# Altium footprint library smdUtilities.PcbLib: 59 footprints (part 1 of 4)
Each footprint in its own frame and in the unit in brackets; x right, y up, seen from the top. Pads: shape width x height; smd on the part's side, far side on the other; paste and mask are expansions set on the pad; w line width, h text height; cw(c..) or ccw(c..) is an arc to the next point about the centre after c.
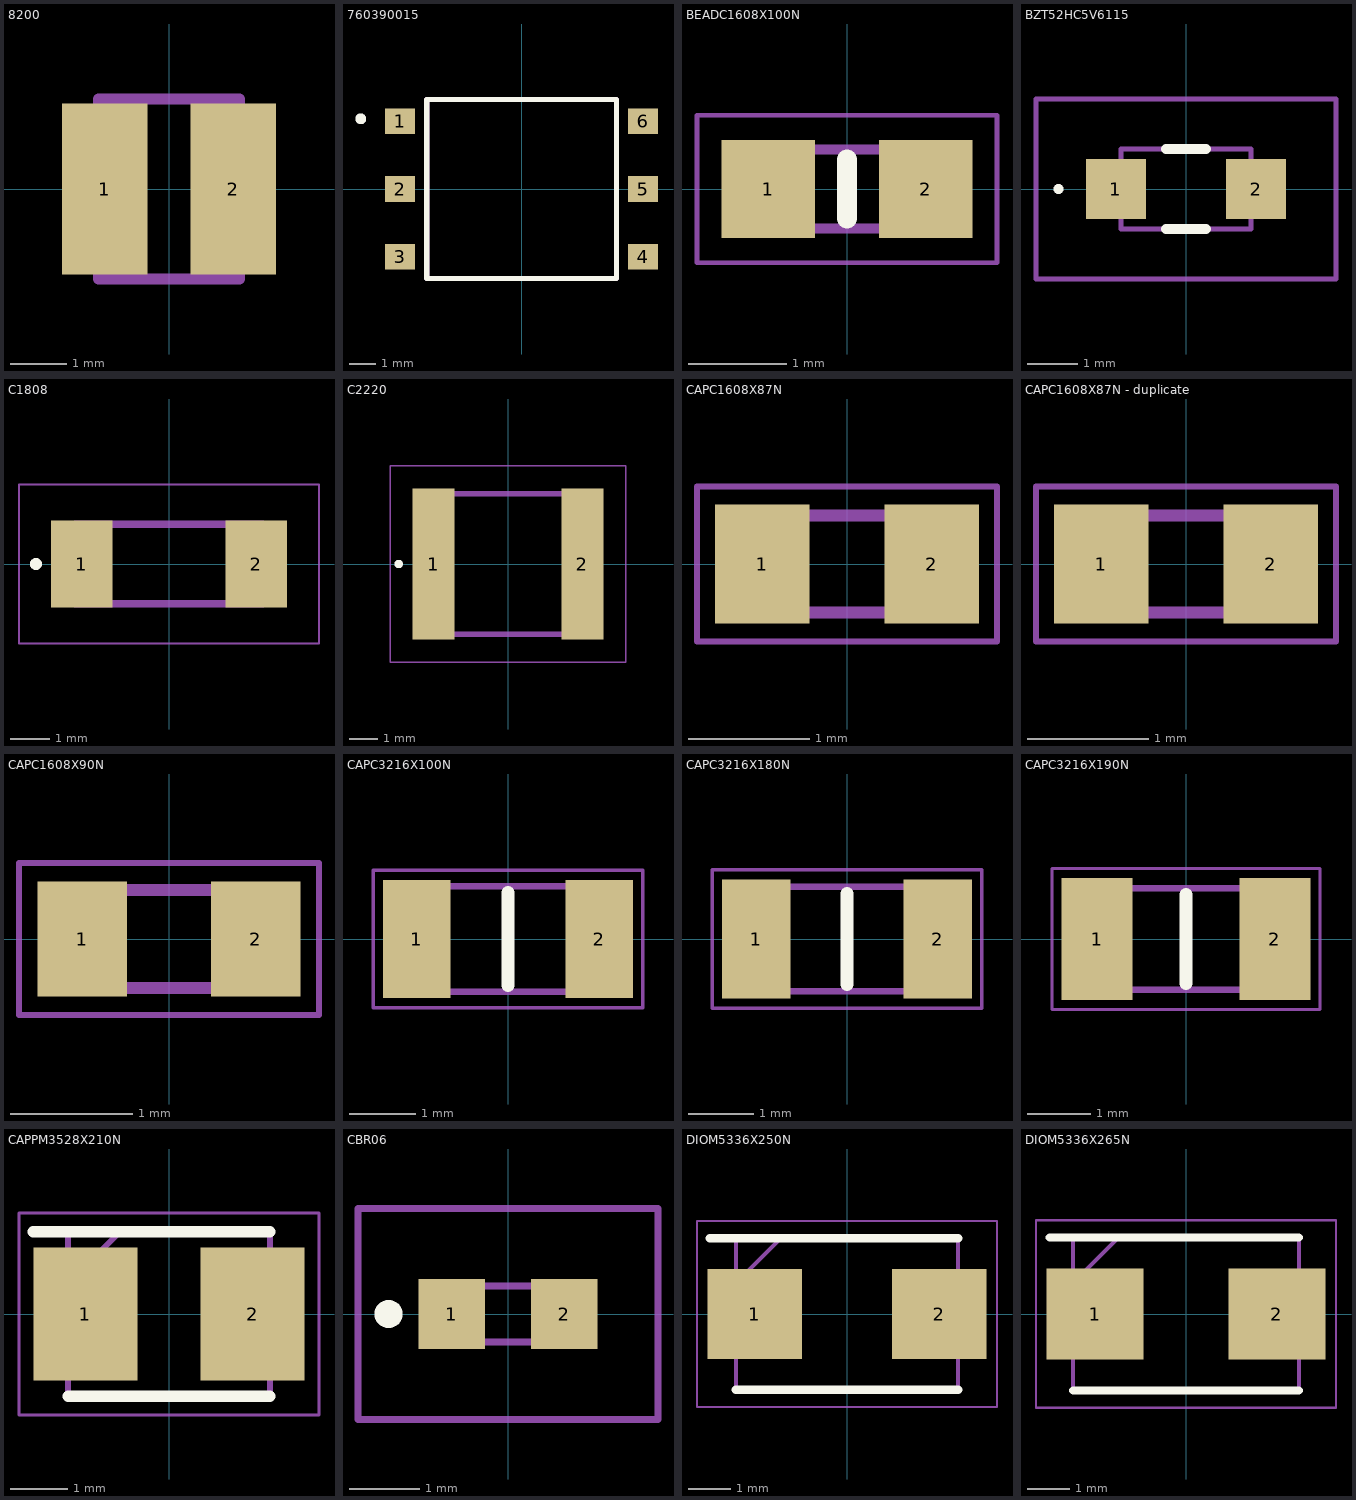
[diagram p0: the footprints below, top view; thin cyan lines are the x and y axes]

## 8200 [mm]
pads (2):
  rect 1.52x3.05 smd: 1(-1.145,0) 2(1.145,0)
Mechanical 13:
  lines w0.2: -1.25,-1.6 -1.25,1.6 1.25,1.6 1.25,-1.6 -1.25,-1.6
3D body "82332C.stp": height 2.01, standoff 0, extent -1.6,-1.25 1.6,1.25

## 760390015 [mm]
pads (6):
  rect 1.12x0.96 smd: 1(-4.57,2.54) 2(-4.57,0) 3(-4.57,-2.54) 4(4.57,-2.54) 5(4.57,0) 6(4.57,2.54)
Top Overlay:
  circle w0.2: c-6.049,2.64 r0.104
  lines w0.2: -3.57,-3.365 3.57,-3.365 3.57,3.365 -3.57,3.365 -3.57,-3.365
Mechanical 13:
  lines w0.2: -3.57,-3.365 -3.57,3.365 3.57,3.365 3.57,-3.365 -3.57,-3.365
3D body "760390015.stp": height 4.06, standoff 0, extent -5.005,-3.235 4.955,3.245

## BEADC1608X100N [mm]
pads (2):
  rect 0.95x1 smd: 1(-0.8,0) 2(0.8,0)
Top Overlay:
  lines w0.2: 0,-0.3 0,0.3
Mechanical 13:
  lines w0.1: -0.8,-0.4 0.8,-0.4 0.8,0.4 -0.8,0.4 -0.8,-0.4
Mechanical 15:
  lines w0.05: -1.525,-0.75 1.525,-0.75 1.525,0.75 -1.525,0.75 -1.525,-0.75
3D body "74279228260.stp": height 1, standoff 0, extent -0.8,-0.4 0.8,0.4

## BZT52HC5V6115 [mm]
pads (2):
  rect 1.2x1.2 smd: 1(-1.4,0) 2(1.4,0)
Top Overlay:
  lines w0.1: -2.6,0 ccw(c-2.55,0) -2.5,0 ccw(c-2.55,0) -2.6,0
  lines w0.2: -0.4,-0.8 0.4,-0.8 ; -0.4,0.8 0.4,0.8
Mechanical 13:
  lines w0.1: -1.3,-0.8 1.3,-0.8 1.3,0.8 -1.3,0.8 -1.3,-0.8
Mechanical 15:
  lines w0.1: -3,-1.8 3,-1.8 3,1.8 -3,1.8 -3,-1.8
3D body "BZT52H-C5V6,115.stp": height 1.1, standoff 0, extent -1.751,-0.805 1.749,0.795

## C1808 [mm]
pads (2):
  rect 1.55x2.2 smd: 1(-2.2,0) 2(2.2,0)
Top Overlay:
  circle w0.2: c-3.35,0 r0.05
Mechanical 13:
  lines w0.2: -2.35,-1 -2.35,1 2.35,1 2.35,-1 -2.35,-1
Mechanical 15:
  lines w0.05: -3.775,-2 -3.775,2 3.775,2 3.775,-2 -3.775,-2
3D body "C1808C102JBGACTU.stp": height 1.75, standoff 0, extent -2.6,-1.1 2.6,1.1

## C2220 [mm]
pads (2):
  rect 1.5x5.4 smd: 1(-2.65,0) 2(2.65,0)
Top Overlay:
  circle w0.2: c-3.9,0 r0.05
Mechanical 13:
  lines w0.2: -2.85,-2.5 2.85,-2.5 2.85,2.5 -2.85,2.5 -2.85,-2.5
Mechanical 15:
  lines w0.05: -4.2,-3.5 4.2,-3.5 4.2,3.5 -4.2,3.5 -4.2,-3.5
3D body "C2220C102KHGACTU.stp": height 1.15, standoff 0, extent -3.048,-2.701 3.052,2.699

## CAPC1608X87N [mm]
pads (2):
  rect 0.78x0.98 smd: 1(-0.7,0) 2(0.7,0)
Mechanical 13:
  lines w0.1: -0.8,-0.4 0.8,-0.4 0.8,0.4 -0.8,0.4 -0.8,-0.4
Mechanical 15:
  lines w0.05: -1.24,-0.64 1.24,-0.64 1.24,0.64 -1.24,0.64 -1.24,-0.64
3D body "C0603C102J5GAC.stp": height 0.91, standoff -0.04, extent -0.875,-0.437 0.875,0.433

## CAPC1608X87N - duplicate [mm]
pads (2):
  rect 0.78x0.98 smd: 1(-0.7,0) 2(0.7,0)
Mechanical 13:
  lines w0.1: -0.8,-0.4 -0.8,0.4 0.8,0.4 0.8,-0.4 -0.8,-0.4
Mechanical 15:
  lines w0.05: -1.24,-0.64 -1.24,0.64 1.24,0.64 1.24,-0.64 -1.24,-0.64
3D body "C0603C331J5GACTU.stp": height 0, standoff -0.95, extent -0.9,-0.438 0.85,0.432

## CAPC1608X90N [mm]
pads (2):
  rect 0.73x0.94 smd: 1(-0.71,0) 2(0.71,0)
Mechanical 13:
  lines w0.1: -0.8,-0.4 0.8,-0.4 0.8,0.4 -0.8,0.4 -0.8,-0.4
Mechanical 15:
  lines w0.05: -1.225,-0.62 1.225,-0.62 1.225,0.62 -1.225,0.62 -1.225,-0.62
3D body "CL10B104JB8NNNC.stp": height 0.9, standoff 0, extent -0.8,-0.4 0.8,0.4

## CAPC3216X100N [mm]
pads (2):
  rect 1.02x1.78 smd: 1(-1.38,0) 2(1.38,0)
Top Overlay:
  lines w0.2: 0,-0.7 0,0.7
Mechanical 13:
  lines w0.1: -1.6,-0.8 1.6,-0.8 1.6,0.8 -1.6,0.8 -1.6,-0.8
Mechanical 15:
  lines w0.05: -2.04,-1.04 2.04,-1.04 2.04,1.04 -2.04,1.04 -2.04,-1.04
3D body "CL31B104KBCNNNC.stp": height 1, standoff 0, extent -1.6,-0.8 1.6,0.8

## CAPC3216X180N [mm]
pads (2):
  rect 1.05x1.82 smd: 1(-1.39,0) 2(1.39,0)
Top Overlay:
  lines w0.2: 0,-0.7 0,0.7
Mechanical 13:
  lines w0.1: -1.6,-0.8 1.6,-0.8 1.6,0.8 -1.6,0.8 -1.6,-0.8
Mechanical 15:
  lines w0.05: -2.065,-1.06 2.065,-1.06 2.065,1.06 -2.065,1.06 -2.065,-1.06
3D body "CL31A106MBHNNNE.stp": height 1.8, standoff 0, extent -1.6,-0.8 1.6,0.8

## CAPC3216X190N [mm]
pads (2):
  rect 1.12x1.92 smd: 1(-1.4,0) 2(1.4,0)
Top Overlay:
  lines w0.2: 0,-0.7 0,0.7
Mechanical 13:
  lines w0.1: -1.6,-0.8 -1.6,0.8 1.6,0.8 1.6,-0.8 -1.6,-0.8
Mechanical 15:
  lines w0.05: -2.11,-1.11 -2.11,1.11 2.11,1.11 2.11,-1.11 -2.11,-1.11
3D body "CL31Y475KCK6NWE.stp": height 1.9, standoff 0, extent -1.6,-0.8 1.6,0.8

## CAPPM3528X210N [mm]
pads (2):
  rect 1.8x2.3 smd: 1(-1.45,0) 2(1.45,0)
Top Overlay:
  lines w0.2: -2.35,1.425 1.75,1.425 ; -1.75,-1.425 1.75,-1.425
Mechanical 13:
  lines w0.1: -1.75,0.525 -0.85,1.425 ; -1.75,-1.425 -1.75,1.425 1.75,1.425 1.75,-1.425 -1.75,-1.425
Mechanical 15:
  lines w0.05: -2.6,-1.75 -2.6,1.75 2.6,1.75 2.6,-1.75 -2.6,-1.75
3D body "TAJB106K025SNJ.stp": height 2.1, standoff 0, extent -1.75,-1.425 1.75,1.425

## CBR06 [mm]
pads (2):
  rect 0.95x1 smd: 1(-0.8,0) 2(0.8,0)
Top Overlay:
  lines w0.2: -1.7,-0.1 ccw(c-1.7,0) -1.7,0.1 ccw(c-1.7,0) -1.7,-0.1
Mechanical 13:
  lines w0.1: -0.8,-0.4 -0.8,0.4 0.8,0.4 0.8,-0.4 -0.8,-0.4
Mechanical 15:
  lines w0.1: -2.135,-1.5 -2.135,1.5 2.135,1.5 2.135,-1.5 -2.135,-1.5
3D body "CBR06C330J5GACAUTO.stp": height 0.9, standoff 0, extent -0.85,-0.45 0.85,0.45

## DIOM5336X250N [mm]
pads (2):
  rect 2.25x2.15 smd: 1(-2.2,0) 2(2.2,0)
Top Overlay:
  lines w0.2: -3.275,1.81 2.648,1.81 ; -2.648,-1.81 2.648,-1.81
Mechanical 13:
  lines w0.1: -2.648,0.735 -1.572,1.81 ; -2.648,-1.81 2.648,-1.81 2.648,1.81 -2.648,1.81 -2.648,-1.81
Mechanical 15:
  lines w0.05: -3.575,-2.22 3.575,-2.22 3.575,2.22 -3.575,2.22 -3.575,-2.22
3D body "S1MB-13-F.stp": height 2.3, standoff 0, extent -2.679,-1.752 2.681,1.748

## DIOM5336X265N [mm]
pads (2):
  rect 2.3x2.15 smd: 1(-2.15,0) 2(2.15,0)
Top Overlay:
  lines w0.2: -3.225,1.81 2.672,1.81 ; -2.672,-1.81 2.672,-1.81
Mechanical 13:
  lines w0.1: -2.672,0.735 -1.598,1.81 ; -2.672,-1.81 -2.672,1.81 2.672,1.81 2.672,-1.81 -2.672,-1.81
Mechanical 15:
  lines w0.05: -3.55,-2.22 -3.55,2.22 3.55,2.22 3.55,-2.22 -3.55,-2.22
3D body "FR2MJ.stp": height 2.65, standoff 0, extent -2.672,-1.81 2.672,1.81